# EAGLE library part TDA1554Q (library LibABL)
The TDA1554Q contains four identical amplifiers with differential input stages (two inverting and two non-inverting) and can be used for single-ended or bridge applications. The gain of each amplifier is fixed at 20 dB (26 dB in BTL). A special feature of this device is: Mute/stand-by switch ? low stand-by current (< 100µA) ? low mute/stand-by switching current (low cost supply switch) ? mute facility
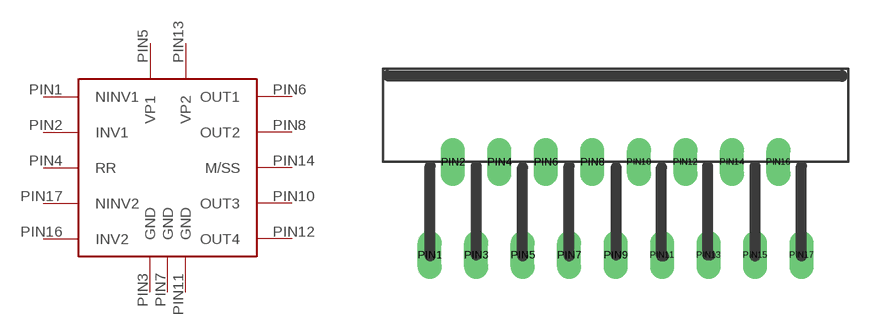
[diagram p1: symbol with the pads of SIL17; footprint SIL17]

Designator prefix -

## TDA1554Q  [SIL17]
PIN1  NINV1
PIN2  INV1
PIN3  GND
PIN4  RR
PIN5  VP1
PIN6  OUT1
PIN7  GND
PIN8  OUT2
PIN10  OUT3
PIN11  GND
PIN12  OUT4
PIN13  VP2
PIN14  M/SS
PIN16  INV2
PIN17  NINV2

## Footprint SIL17 (pad centres in mm)
The TDA1554Q is an integrated class-B output amplifier in a 17-lead single-in-line (SIL) plastic power package. The circuit contains 4 x 11 W single-ended or 2 x 22 W bridge amplifiers. The device is primarily developed for car radio application
drill 0.8 long: PIN1 -11.43,-7.62; PIN2 -10.16,-2.54; PIN3 -8.89,-7.62; PIN4 -7.62,-2.54; PIN5 -6.35,-7.62; PIN6 -5.08,-2.54; PIN7 -3.81,-7.62; PIN8 -2.54,-2.54; PIN9 -1.27,-7.62; PIN10 0,-2.54; PIN11 1.27,-7.62; PIN12 2.54,-2.54; PIN13 3.81,-7.62; PIN14 5.08,-2.54; PIN15 6.35,-7.62; PIN16 7.62,-2.54; PIN17 8.89,-7.62